# EAGLE library part LM386 (library ieee_rec)
DIP 08 Package
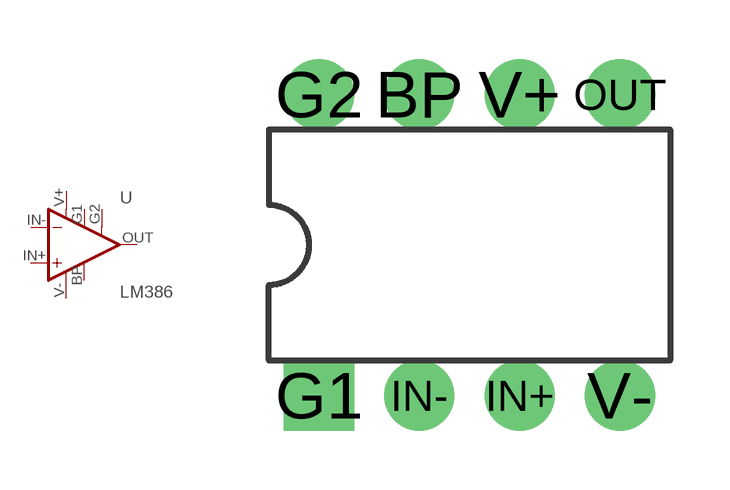
[diagram p1: symbol with the pads of DIL08; footprint DIL08]

Designator prefix -

## LM386  [DIL08]
BP  BP
G1  GAIN
G2  GAIN
IN+  +IN  in
IN-  -IN  in
OUT  OUT  out
V+  V+  pwr
V-  V-  pwr

## Footprint DIL08 (pad centres in mm)
Dual In Line Package
drill 0.9 pad 1.778: BP -1.27,3.81; G2 -3.81,3.81; IN+ 1.27,-3.81; IN- -1.27,-3.81; OUT 3.81,3.81; V+ 1.27,3.81; V- 3.81,-3.81
drill 0.9 pad 1.778 square: G1 -3.81,-3.81